# EAGLE library part POWER-UTC-4432 (library MiiLib)
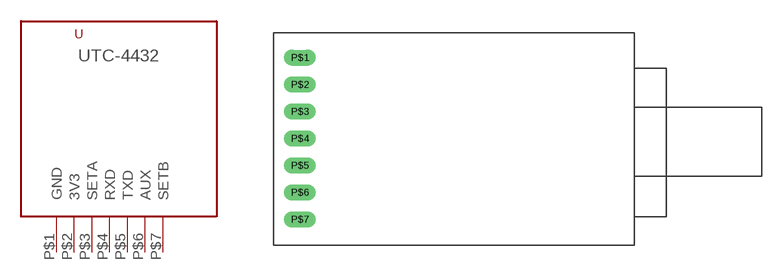
[diagram p5: symbol with the pads of POWER-UTC-4432; footprint POWER-UTC-4432]

Designator prefix -

## POWER-UTC-4432  [POWER-UTC-4432]
P$1  GND
P$2  3V3
P$3  SETA
P$4  RXD
P$5  TXD
P$6  AUX
P$7  SETB

## Footprint POWER-UTC-4432 (pad centres in mm)
drill 1 long: P$1 2.475,17.68; P$2 2.475,15.14; P$3 2.475,12.6; P$4 2.475,10.06; P$5 2.475,7.52; P$6 2.475,4.98; P$7 2.475,2.44